# EAGLE library part PIC12LF1840 (library neels)
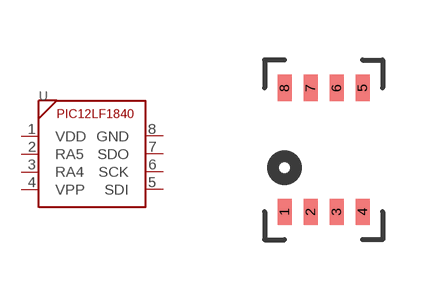
[diagram p4: symbol with the pads of 8DFN3X3; footprint 8DFN3X3]

Designator prefix -

## PIC12LF1840  [8DFN3X3]
1  VDD  pwr
2  RA5
3  RA4
4  VPP
5  SDI
6  SCK
7  SDO
8  GND  pwr

## Footprint 8DFN3X3 (pad centres in mm)
smd 0.35 x 0.65: 1 0,0; 2 0.65,0; 3 1.3,0; 4 1.95,0; 5 1.95,3.1; 6 1.3,3.1; 7 0.65,3.1; 8 0,3.1